# Altium footprint library Terminal Block_2P.PcbLib: 1 footprints
Each footprint in its own frame and in the unit in brackets; x right, y up, seen from the top. Pads: shape width x height; smd on the part's side, far side on the other; paste and mask are expansions set on the pad; w line width, h text height; cw(c..) or ccw(c..) is an arc to the next point about the centre after c.
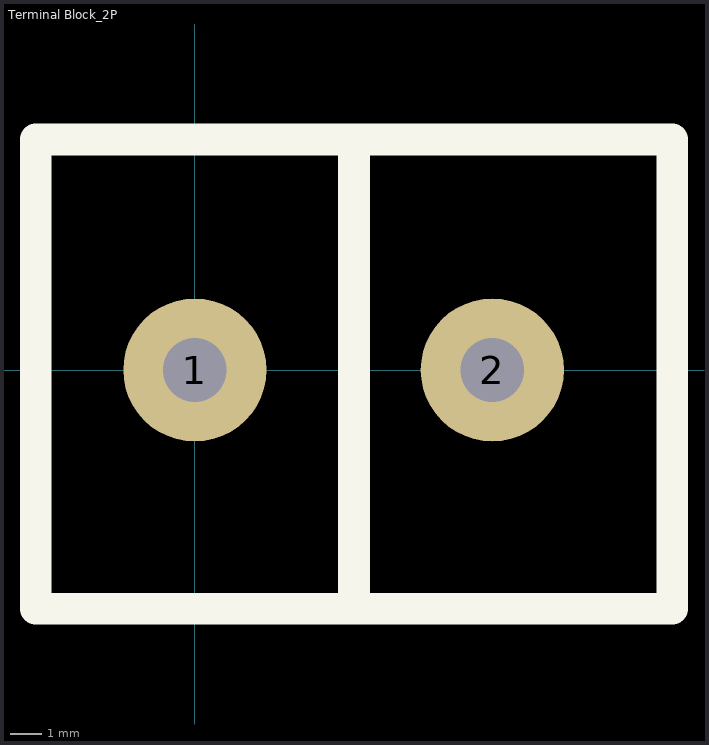
[diagram p0: the footprint, top view; thin cyan lines are the x and y axes]

## Terminal Block_2P [mm]
pads (2):
  round 4.5 hole 2: 1(0,0) 2(9.347,0)
Top Overlay:
  lines w1: 5,-7.5 5,7.25 ; -5,-7.5 -5,7.25 15,7.25 15,-7.5 -5,-7.5